# Altium integrated library CI interfaz CAN.IntLib: 1 symbol
Pins are listed as number, name and electrical type; pins without a type are passive.

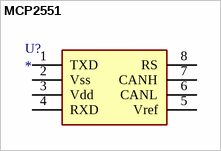
[diagram p0: symbol MCP2551]

## MCP2551
designator U?
ComponentLink1Description: mouser; ComponentLink1URL: https://eu.mouser.com/ProductDetail/Microchip-Technology/MCP2551-I-SN?qs=9y3LFqDLL8L5zFfqqxdOHg%3D%3D; datasheet: https://eu.mouser.com/datasheet/2/268/20001667G-1115479.pdf
footprint SOIC127P600X175-8N
pins: 1 TXD, 2 Vss, 3 Vdd, 4 RXD, 5 Vref, 6 CANL, 7 CANH, 8 RS